# EAGLE library part PCF8563 (library bontor)
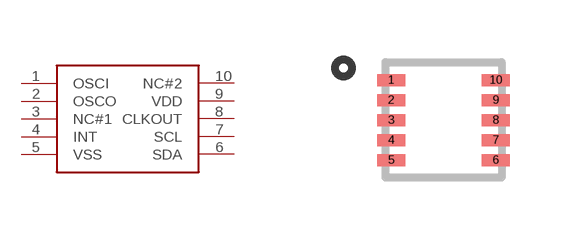
[diagram p8: symbol with the pads of HVSON10; footprint HVSON10]

Designator prefix -

## PCF8563  [HVSON10]
1  OSCI
2  OSCO
3  NC#1
4  INT
5  VSS
6  SDA
7  SCL
8  CLKOUT
9  VDD
10  NC#2

## Footprint HVSON10 (pad centres in mm)
smd 0.7 x 0.3: 1 -1.31,1; 2 -1.31,0.5; 3 -1.31,0; 4 -1.31,-0.5; 5 -1.31,-1; 6 1.31,-1; 7 1.31,-0.5; 8 1.31,0; 9 1.31,0.5; 10 1.31,1